# Altium schematic symbol library SCH - MCU - ATMEGA - MICROCHIP ATMEGA324PA-CU VFBGA49.SchLib: 1 symbol
Pins are listed as number, name and electrical type; pins without a type are passive.

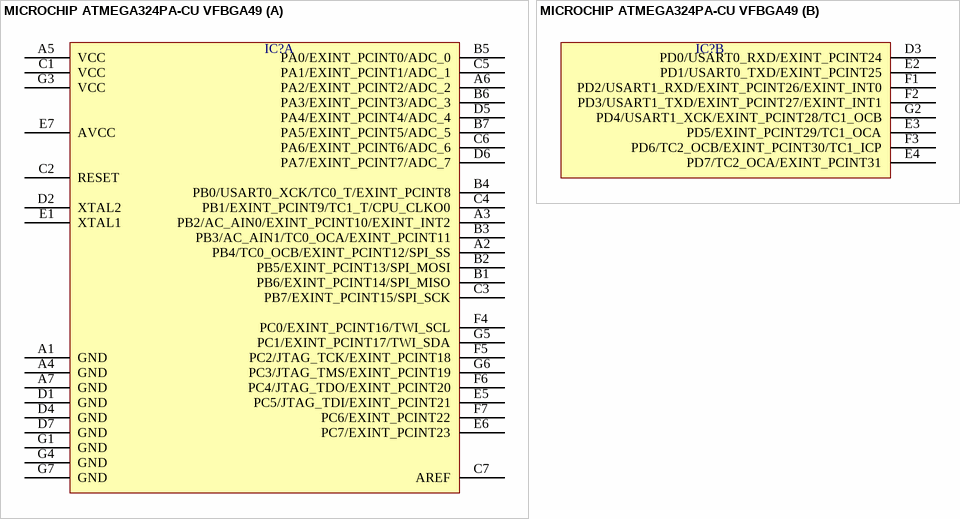
[diagram p0: symbol MICROCHIP ATMEGA324PA-CU VFBGA49]

## MICROCHIP ATMEGA324PA-CU VFBGA49
designator IC?  (value not drawn)
part A pins: A1 GND, A2 PB4/TC0_OCB/EXINT_PCINT12/SPI_SS, A3 PB2/AC_AIN0/EXINT_PCINT10/EXINT_INT2, A4 GND, A5 VCC, A6 PA2/EXINT_PCINT2/ADC_2, A7 GND, B1 PB6/EXINT_PCINT14/SPI_MISO, B2 PB5/EXINT_PCINT13/SPI_MOSI, B3 PB3/AC_AIN1/TC0_OCA/EXINT_PCINT11, B4 PB0/USART0_XCK/TC0_T/EXINT_PCINT8, B5 PA0/EXINT_PCINT0/ADC_0, B6 PA3/EXINT_PCINT3/ADC_3, B7 PA5/EXINT_PCINT5/ADC_5, C1 VCC, C2 RESET, C3 PB7/EXINT_PCINT15/SPI_SCK, C4 PB1/EXINT_PCINT9/TC1_T/CPU_CLKO0, C5 PA1/EXINT_PCINT1/ADC_1, C6 PA6/EXINT_PCINT6/ADC_6, C7 AREF, D1 GND, D2 XTAL2, D4 GND, D5 PA4/EXINT_PCINT4/ADC_4, D6 PA7/EXINT_PCINT7/ADC_7, D7 GND, E1 XTAL1, E5 PC5/JTAG_TDI/EXINT_PCINT21, E6 PC7/EXINT_PCINT23, E7 AVCC, F4 PC0/EXINT_PCINT16/TWI_SCL, F5 PC2/JTAG_TCK/EXINT_PCINT18, F6 PC4/JTAG_TDO/EXINT_PCINT20, F7 PC6/EXINT_PCINT22, G1 GND, G3 VCC, G4 GND, G5 PC1/EXINT_PCINT17/TWI_SDA, G6 PC3/JTAG_TMS/EXINT_PCINT19, G7 GND
part B pins: D3 PD0/USART0_RXD/EXINT_PCINT24, E2 PD1/USART0_TXD/EXINT_PCINT25, E3 PD5/EXINT_PCINT29/TC1_OCA, E4 PD7/TC2_OCA/EXINT_PCINT31, F1 PD2/USART1_RXD/EXINT_PCINT26/EXINT_INT0, F2 PD3/USART1_TXD/EXINT_PCINT27/EXINT_INT1, F3 PD6/TC2_OCB/EXINT_PCINT30/TC1_ICP, G2 PD4/USART1_XCK/EXINT_PCINT28/TC1_OCB